# Altium schematic symbol library CD40106BE.SchLib: 1 symbol
Pins are listed as number, name and electrical type; pins without a type are passive.

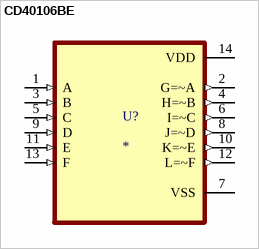
[diagram p0: symbol CD40106BE]

## CD40106BE
designator U?
6-ch, 3-V to 18-V inverters with Schmitt-Trigger inputs; MF: Texas Instruments; MP: CD40106BE; SnapEDA_Link: https://www.snapeda.com/parts/CD40106BE/Texas+Instruments/view-part/?ref=snap; Package: PDIP-14 Texas Instruments; Value: *; Check_prices: https://www.snapeda.com/parts/CD40106BE/Texas+Instruments/view-part/?ref=eda
footprint DIP794W45P254L1969H508Q14
pins: 1 A (in), 2 G=~A (out), 3 B (in), 4 H=~B (out), 5 C (in), 6 I=~C (out), 7 VSS (power), 8 J=~D (out), 9 D (in), 10 K=~E (out), 11 E (in), 12 L=~F (out), 13 F (in), 14 VDD (power)